# Altium footprint library Connector_PinSocket_2.00mm.PcbLib: 1 footprints
Each footprint in its own frame and in the unit in brackets; x right, y up, seen from the top. Pads: shape width x height; smd on the part's side, far side on the other; paste and mask are expansions set on the pad; w line width, h text height; cw(c..) or ccw(c..) is an arc to the next point about the centre after c.
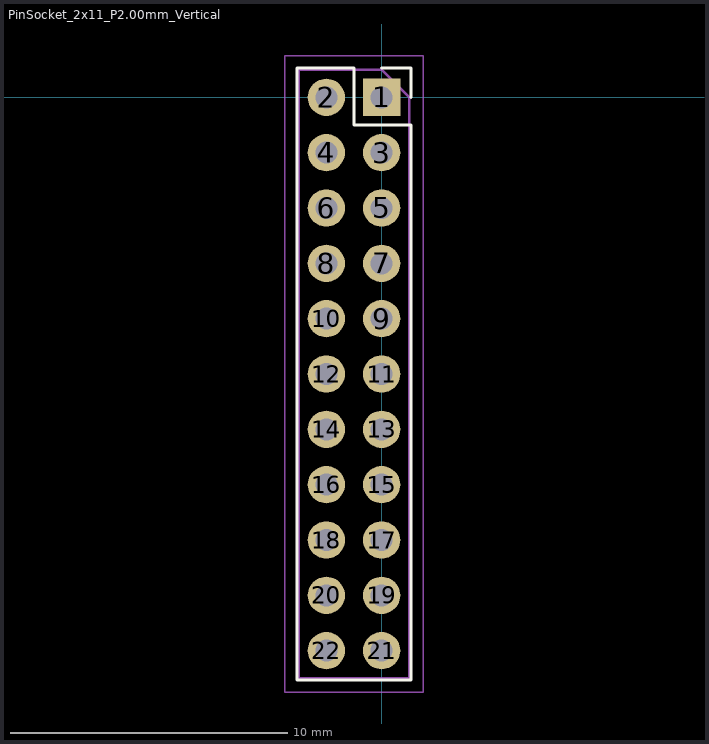
[diagram p0: the footprint, top view; thin cyan lines are the x and y axes]

## PinSocket_2x11_P2.00mm_Vertical [mm]
pads (22):
  rect 1.35x1.35 hole 0.8: 1(0,0)
  round 1.35 hole 0.8: 2(-2,0) 3(0,-2) 4(-2,-2) 5(0,-4) 6(-2,-4) 7(0,-6) 8(-2,-6) 9(0,-8) 10(-2,-8) 11(0,-10) 12(-2,-10) 13(0,-12) 14(-2,-12) 15(0,-14) 16(-2,-14) 17(0,-16) 18(-2,-16) 19(0,-18) 20(-2,-18) 21(0,-20) 22(-2,-20)
Top Overlay:
  lines w0.12: 0,1.06 1.06,1.06 1.06,0 ; -3.06,-21.06 1.06,-21.06 1.06,-1 -1,-1 -1,1.06 -3.06,1.06 -3.06,-21.06
Mechanical 13:
  lines w0.1: -3,-21 1,-21 1,0 0,1 -3,1 -3,-21
Mechanical 15:
  lines w0.05: -3.5,-21.5 1.5,-21.5 1.5,1.5 -3.5,1.5 -3.5,-21.5
3D body "PinSocket_2x11_P2.00mm_Vertical.step": height 5.6, standoff -2.7, extent -3,-21 1,1